# Altium schematic symbol library IC_Memory.SchLib: 15 symbols
Pins are listed as number, name and electrical type; pins without a type are passive.

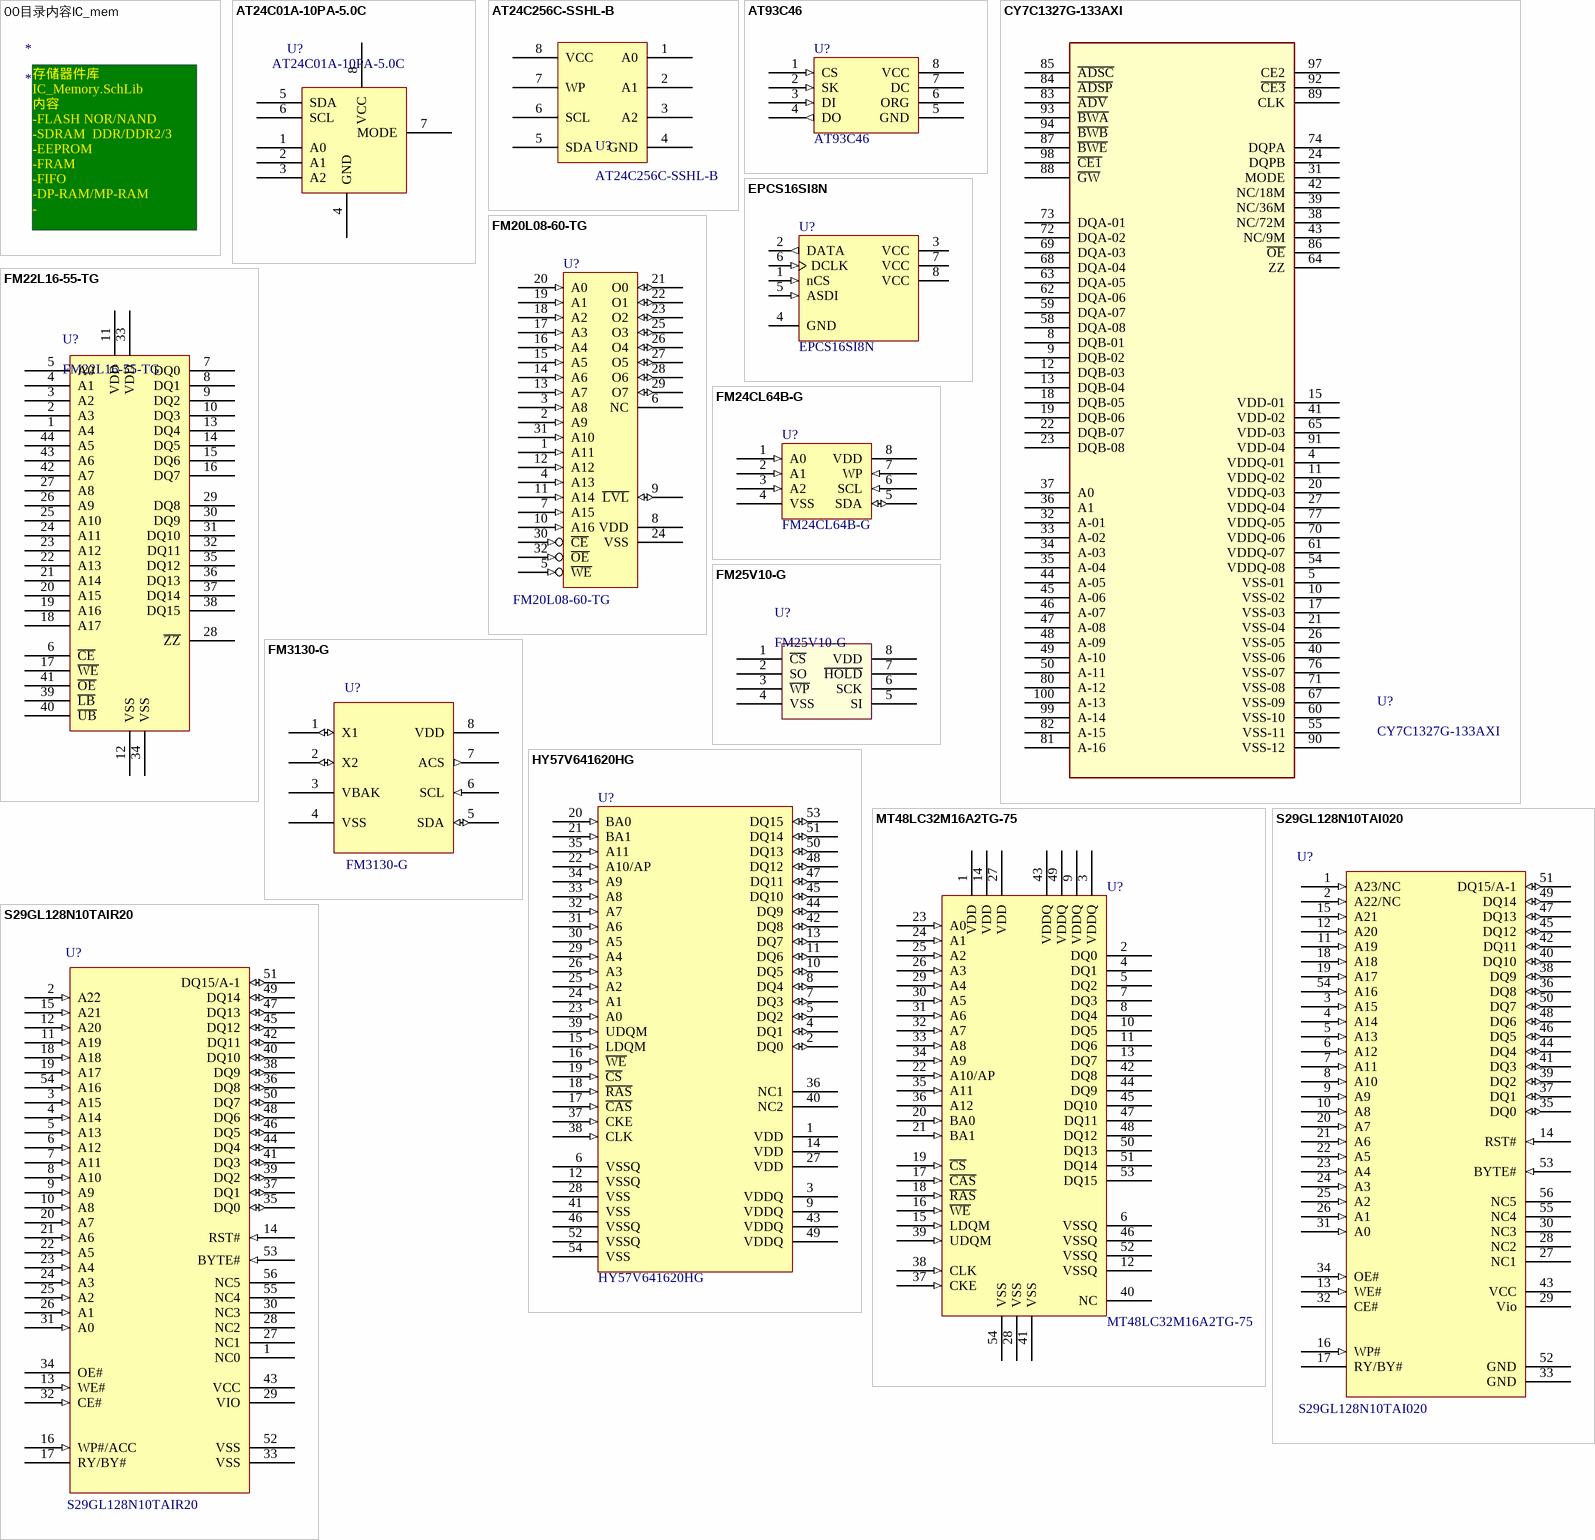
[diagram p0: symbols 00目录内容IC_mem to S29GL128N10TAIR20]

## 00目录内容IC_mem
designator *
text: 存储器件库 IC_Memory.SchLib / 内容 / -FLASH NOR/NAND / -SDRAM  DDR/DDR2/3 / -EEPROM / -FRAM / -FIFO / -DP-RAM/MP-RAM / - /

## AT24C01A-10PA-5.0C
designator U?
2K,256x8 EEPROM; Manufacturer: ATMEL; Price: 3.5; Ordering NO.: AT24C01A-10PA-5.0C; Name: EEPROM
footprint SO8/1.27_4.9*3.9 (SOIC, 8-Leads, Body 4.9x3.9mm, Pitch 1.27mm,)
pins: 1 A0, 2 A1, 3 A2, 4 GND, 5 SDA, 6 SCL, 7 MODE, 8 VCC

## AT24C256C-SSHL-B
designator U?
I2C-Compatible (2-Wire) Serial EEPROM  256-Kbit (32,768 x 8); Manufacturer: ATMEL; Name: EEPROM; Ordering NO.: AT24C256C-SSHL-B
footprint SO8/1.27_4.9*3.9 (SOIC, 8-Leads, Body 4.9x3.9mm, Pitch 1.27mm,)
pins: 1 A0, 2 A1, 3 A2, 4 GND, 5 SDA, 6 SCL, 7 WP, 8 VCC

## AT93C46
designator U?
3-Wire EEPROM; Manufacturer: ATMEL; Ordering NO.: AT93C46-10SI; Name: EEPROM
footprint SO8/1.27_4.9*3.9 (SOIC, 8-Leads, Body 4.9x3.9mm, Pitch 1.27mm,)
pins: 1 CS (in), 2 SK (in), 3 DI (in), 4 DO (out), 5 GND (power), 6 ORG (hiz), 7 DC (hiz), 8 VCC (power)

## CY7C1327G-133AXI
designator U?
4-Mbit (256K x 18) Pipelined Sync SRAM; Manufacturer: CYPRESS; Name: SRAM; Ordering NO.: CY7C1327G-133AXI
footprint TQFP100/0.65_14*20 (TQFP, 100-Leads, Body 22.2x16.2mm (max), Pitch 0.65mm, IPC Medium Density)
pins: 4 VDDQ-01, 5 VSS-01, 8 DQB-01, 9 DQB-02, 10 VSS-02, 11 VDDQ-02, 12 DQB-03, 13 DQB-04, 15 VDD-01, 17 VSS-03, 18 DQB-05, 19 DQB-06, 20 VDDQ-03, 21 VSS-04, 22 DQB-07, 23 DQB-08, 24 DQPB, 26 VSS-05, 27 VDDQ-04, 31 MODE, 32 A-01, 33 A-02, 34 A-03, 35 A-04, 36 A1, 37 A0, 38 NC/72M, 39 NC/36M, 40 VSS-06, 41 VDD-02, 42 NC/18M, 43 NC/9M, 44 A-05, 45 A-06, 46 A-07, 47 A-08, 48 A-09, 49 A-10, 50 A-11, 54 VDDQ-08, 55 VSS-11, 58 DQA-08, 59 DQA-07, 60 VSS-10, 61 VDDQ-07, 62 DQA-06, 63 DQA-05, 64 ZZ, 65 VDD-03, 67 VSS-09, 68 DQA-04, 69 DQA-03, 70 VDDQ-06, 71 VSS-08, 72 DQA-02, 73 DQA-01, 74 DQPA, 76 VSS-07, 77 VDDQ-05, 80 A-12, 81 A-16, 82 A-15, 83 ~{ADV}, 84 ~{ADSP}, 85 ~{ADSC}, 86 ~{OE}, 87 ~{BWE}, 88 ~{GW}, 89 CLK, 90 VSS-12, 91 VDD-04, 92 ~{CE3}, 93 ~{BWA}, 94 ~{BWB}, 97 CE2, 98 ~{CE1}, 99 A-14, 100 A-13

## EPCS16SI8N
designator U?
EPCS16 Series, In-system programmable 3.3V serial configuration device, 8-Pin SOIC, 16-Megabit, Industrial Grade, Pb-Free; Manufacturer: Altera; Name: FLASH; Ordering NO.: EPCS16SI8N
footprint SO8/1.27_4.9*3.9 (SOIC, 8-Leads, Body 4.9x3.9mm, Pitch 1.27mm,)
pins: 1 nCS (in) "Active low, chip select input", 2 DATA (out) "Serial data out", 3 VCC (power) "3.3V supply", 4 GND (power) "Ground", 5 ASDI (in) "AS data in", 6 DCLK (in) "Provides timing of the serial interface", 7 VCC (power) "3.3V supply", 8 VCC (power) "3.3V supply"

## FM20L08-60-TG
designator U?
1Mbit Bytewide F-RAM Memory; Manufacturer: Cypress Semiconductor Corporation; Name: 铁电存储器; Ordering NO.: FM20L08-60-TG
footprint TSOP32/0.5_11.8*8 (TSOP,32 Leads,Pitch=0.5mm,Body 11.8X8mm)
pins: 1 A11 (in), 2 A9 (in), 3 A8 (in), 4 A13 (in), 5 ~{WE} (in), 6 NC, 7 A15 (in), 8 VDD (power), 9 ~{LVL} (io), 10 A16 (in), 11 A14 (in), 12 A12 (in), 13 A7 (in), 14 A6 (in), 15 A5 (in), 16 A4 (in), 17 A3 (in), 18 A2 (in), 19 A1 (in), 20 A0 (in), 21 O0 (io), 22 O1 (io), 23 O2 (io), 24 VSS, 25 O3 (io), 26 O4 (io), 27 O5 (io), 28 O6 (io), 29 O7 (io), 30 ~{CE} (in), 31 A10 (in), 32 ~{OE} (in)

## FM22L16-55-TG
designator U?
512KB@16bits, 4Mbit Asynchronous F-RAM Memory; Manufacturer: Cypress Semiconductor Corporation; 物料说明: 512KB NV-SRAM 16bits; 物料型号说明: 55ns TSOP44; Name: 铁电存储器; Price: 120; Ordering NO.: FM22L16-55-TG
footprint TSOP44/0.8_18.41*10.16 (TSOP-II,44 Leads,Pitch=0.8mm,Body 18.4X10.16mm)
pins: 1 A4, 2 A3, 3 A2, 4 A1, 5 A0, 6 ~{CE}, 7 DQ0, 8 DQ1, 9 DQ2, 10 DQ3, 11 VDD, 12 VSS, 13 DQ4, 14 DQ5, 15 DQ6, 16 DQ7, 17 ~{WE}, 18 A17, 19 A16, 20 A15, 21 A14, 22 A13, 23 A12, 24 A11, 25 A10, 26 A9, 27 A8, 28 ~{ZZ}, 29 DQ8, 30 DQ9, 31 DQ10, 32 DQ11, 33 VDD, 34 VSS, 35 DQ12, 36 DQ13, 37 DQ14, 38 DQ15, 39 ~{LB}, 40 ~{UB}, 41 ~{OE}, 42 A7, 43 A6, 44 A5

## FM24CL64B-G
designator U?
64K bit Ferroelectric Nonvolatile RAM; Manufacturer: Cypress Semiconductor Corporation; Name: 铁电存储器; Ordering NO.: FM24CL64B-G
footprint SO8/1.27_4.9*3.9 (SOIC, 8-Leads, Body 4.9x3.9mm, Pitch 1.27mm,)
pins: 1 A0 (in), 2 A1 (in), 3 A2 (in), 4 VSS (power), 5 SDA (io), 6 SCL (in), 7 WP (in), 8 VDD (power)

## FM25V10-G
designator U?
1-Mbit(128Kx8) Serial (SPI) F-RAM; Manufacturer: Cypress Semiconductor Corporation; Name: 铁电存储器; Ordering NO.: FM25V10-G
footprint SO8/1.27_4.9*3.9 (SOIC, 8-Leads, Body 4.9x3.9mm, Pitch 1.27mm,)
pins: 1 ~{CS}, 2 SO, 3 ~{WP}, 4 VSS (power), 5 SI, 6 SCK, 7 ~{HOLD}, 8 VDD (power)

## FM3130-G
designator U?
Integrated RTC/Alarm and 64Kb FRAM; Manufacturer: Cypress Semiconductor Corporation; Name: 铁电存储器; Ordering NO.: FM3130-G
footprint SO8/1.27_4.9*3.9 (SOIC, 8-Leads, Body 4.9x3.9mm, Pitch 1.27mm,)
pins: 1 X1 (io), 2 X2 (io), 3 VBAK (power), 4 VSS (power), 5 SDA (io), 6 SCL (in), 7 ACS (out), 8 VDD (power)

## HY57V641620HG
designator U?
4 Banks x 1M x 16Bit Synchronous DRAM; Manufacturer: HYNIX; tips: 时钟频率和供电可选，采购号后缀决定; Ordering NO.: HY57V641620HG; Name: DRAM
footprint TSOP54/0.8_22.22*10.16 (TSOP-II,54 Leads,Pitch=0.8mm,Body 22.22X10.16mm)
pins: 1 VDD (power), 2 DQ0 (io), 3 VDDQ (power), 4 DQ1 (io), 5 DQ2 (io), 6 VSSQ (power), 7 DQ3 (io), 8 DQ4 (io), 9 VDDQ (power), 10 DQ5 (io), 11 DQ6 (io), 12 VSSQ (power), 13 DQ7 (io), 14 VDD (power), 15 LDQM (in), 16 ~{WE} (in), 17 ~{CAS} (in), 18 ~{RAS} (in), 19 ~{CS} (in), 20 BA0 (in), 21 BA1 (in), 22 A10/AP (in), 23 A0 (in), 24 A1 (in), 25 A2 (in), 26 A3 (in), 27 VDD (power), 28 VSS (power), 29 A4 (in), 30 A5 (in), 31 A6 (in), 32 A7 (in), 33 A8 (in), 34 A9 (in), 35 A11 (in), 36 NC1, 37 CKE (in), 38 CLK (in), 39 UDQM (in), 40 NC2, 41 VSS (power), 42 DQ8 (io), 43 VDDQ (power), 44 DQ9 (io), 45 DQ10 (io), 46 VSSQ (power), 47 DQ11 (io), 48 DQ12 (io), 49 VDDQ (power), 50 DQ13 (io), 51 DQ14 (io), 52 VSSQ (power), 53 DQ15 (io), 54 VSS (power)

## MT48LC32M16A2TG-75
designator U?
512Mb Synchronous High-Speed CMOS DRAM:8MBx16x4bank; Manufacturer: Micron; Name: SDRAM; Price: 12; 物料说明: SDRAM:8MBx16x4bank; Ordering NO.: MT48LC32M16A2TG-75; 物料型号说明: 8MBx16x4bank
footprint TSOP54/0.8_22.22*10.16 (TSOP-II,54 Leads,Pitch=0.8mm,Body 22.22X10.16mm)
pins: 1 VDD, 2 DQ0 (hiz), 3 VDDQ, 4 DQ1 (hiz), 5 DQ2 (hiz), 6 VSSQ, 7 DQ3 (hiz), 8 DQ4 (hiz), 9 VDDQ, 10 DQ5 (hiz), 11 DQ6 (hiz), 12 VSSQ, 13 DQ7 (hiz), 14 VDD, 15 LDQM (in), 16 ~{WE} (in), 17 ~{CAS} (in), 18 ~{RAS} (in), 19 ~{CS} (in), 20 BA0 (in), 21 BA1 (in), 22 A10/AP (in), 23 A0 (in), 24 A1 (in), 25 A2 (in), 26 A3 (in), 27 VDD, 28 VSS, 29 A4 (in), 30 A5 (in), 31 A6 (in), 32 A7 (in), 33 A8 (in), 34 A9 (in), 35 A11 (in), 36 A12, 37 CKE (in), 38 CLK (in), 39 UDQM (in), 40 NC, 41 VSS, 42 DQ8 (hiz), 43 VDDQ, 44 DQ9 (hiz), 45 DQ10 (hiz), 46 VSSQ, 47 DQ11 (hiz), 48 DQ12 (hiz), 49 VDDQ, 50 DQ13 (hiz), 51 DQ14 (hiz), 52 VSSQ, 53 DQ15 (hiz), 54 VSS

## S29GL128N10TAI020
designator U?
FLASH NOR 16MB; Manufacturer: SPANSION; 物料型号说明: 商业温度; Ordering NO.: S29GL128N10TAI020; Name: FLASH; Price: 30
footprint TSOP56/0.5_14*18.4
pins: 1 A23/NC (in), 2 A22/NC (in), 3 A15 (in), 4 A14 (in), 5 A13 (in), 6 A12 (in), 7 A11 (in), 8 A10 (in), 9 A9 (in), 10 A8 (in), 11 A19 (in), 12 A20 (in), 13 WE# (in), 14 RST# (in), 15 A21 (in), 16 WP# (in), 17 RY/BY# (oc), 18 A18 (in), 19 A17 (in), 20 A7 (in), 21 A6 (in), 22 A5 (in), 23 A4 (in), 24 A3 (in), 25 A2 (in), 26 A1 (in), 27 NC1, 28 NC2, 29 Vio (power), 30 NC3, 31 A0 (in), 32 CE#, 33 GND (power), 34 OE# (in), 35 DQ0 (io), 36 DQ8 (io), 37 DQ1 (io), 38 DQ9 (io), 39 DQ2 (io), 40 DQ10 (io), 41 DQ3 (io), 42 DQ11 (io), 43 VCC (power), 44 DQ4 (io), 45 DQ12 (io), 46 DQ5 (io), 47 DQ13 (io), 48 DQ6 (io), 49 DQ14 (io), 50 DQ7 (io), 51 DQ15/A-1 (io), 52 GND (power), 53 BYTE# (in), 54 A16 (in), 55 NC4, 56 NC5

## S29GL128N10TAIR20
designator U?
128 Megabit,3.0 V-only Page Mode Flash Memory featuring 0.23μm MirrorBit process technology; Manufacturer: SPANSION; Ordering NO.: S29GL128N10TAIR20; Name: FLASH
footprint TSOP56/0.5_14*18.4
pins: 1 NC0, 2 A22 (in), 3 A15 (in), 4 A14 (in), 5 A13 (in), 6 A12 (in), 7 A11 (in), 8 A10 (in), 9 A9 (in), 10 A8 (in), 11 A19 (in), 12 A20 (in), 13 WE# (in), 14 RST# (in), 15 A21 (in), 16 WP#/ACC (in), 17 RY/BY# (oc), 18 A18 (in), 19 A17 (in), 20 A7 (in), 21 A6 (in), 22 A5 (in), 23 A4 (in), 24 A3 (in), 25 A2 (in), 26 A1 (in), 27 NC1, 28 NC2, 29 VIO (power), 30 NC3, 31 A0 (in), 32 CE# (in), 33 VSS (power), 34 OE#, 35 DQ0 (io), 36 DQ8 (io), 37 DQ1 (io), 38 DQ9 (io), 39 DQ2 (io), 40 DQ10 (io), 41 DQ3 (io), 42 DQ11 (io), 43 VCC (power), 44 DQ4 (io), 45 DQ12 (io), 46 DQ5 (io), 47 DQ13 (io), 48 DQ6 (io), 49 DQ14 (io), 50 DQ7 (io), 51 DQ15/A-1 (io), 52 VSS (power), 53 BYTE# (in), 54 A16 (in), 55 NC4, 56 NC5